# Altium footprint library resistor-th.PcbLib: 2 footprints
Each footprint in its own frame and in the unit in brackets; x right, y up, seen from the top. Pads: shape width x height; smd on the part's side, far side on the other; paste and mask are expansions set on the pad; w line width, h text height; cw(c..) or ccw(c..) is an arc to the next point about the centre after c.
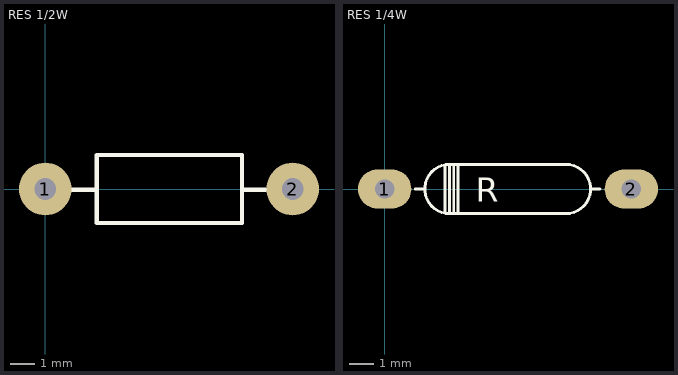
[diagram p0: the footprints below, top view; thin cyan lines are the x and y axes]

## RES 1/2W [mil] "R 1/2W, 2 pin, 300mil"
height 100
pads (2):
  round 85 hole 35: 1(0,0) 2(400,0)
Top Overlay:
  lines w7: 42,-1 83,-1 ; 318,-1 356,-1 ; 83,-55 83,55 318,55 318,-55 83,-55
3D body "SW3dPS-AXIAL_RESISTOR(0.25W).STEP": height 91.42, standoff -70, extent -11.6,-45.49 413.6,49

## RES 1/4W [mm]
pads (2):
  oval 2.2x1.6 hole 0.787: 1(0,0) 2(10.16,0)
Top Overlay:
  lines w0.12: 1.257,0 1.651,0 ; 2.489,-0.978 2.489,0.978 ; 2.591,1.016 7.468,1.016 cw(c7.468,0) 7.468,-1.016 2.667,-1.016 cw(c2.667,0) 2.667,1.016 ; 2.68,-1.016 2.667,-1.003 2.667,1.003 2.68,1.016 ; 2.845,-1.016 2.845,1.016 ; 3.023,-1.003 3.023,0.991 ; 8.484,0 8.877,0
  text "R" at 3.746,-0.521 h1
3D body "User Library-RESISTOR, 0_25 W, 0_4 IN LEAD PITCH.step": height 2.93, standoff -2.54, extent -0.305,-1.156 10.465,1.156